# Altium footprint library Pin, SPHD-001T-P0.5.PcbLib: 1 footprints
Each footprint in its own frame and in the unit in brackets; x right, y up, seen from the top. Pads: shape width x height; smd on the part's side, far side on the other; paste and mask are expansions set on the pad; w line width, h text height; cw(c..) or ccw(c..) is an arc to the next point about the centre after c.

## Pin, SPHD-001T-P0.5 [mm] "Pin, SPHD-001T-P0.5"
3D body "JST  - Pin - SPHD-001T-P0.5.step": height 2.55, standoff 0, extent -1.1,-3.3 1.1,3.3